# Altium integrated library IRLML2502.IntLib: 1 symbol
Pins are listed as number, name and electrical type; pins without a type are passive.

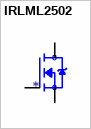
[diagram p0: symbol IRLML2502]

## IRLML2502
designator ?
N-Channel 20V 4.2A _Ta_ 1.25W _Ta_ Surface Mount Micro3â„¢/SOT-23; MF: Infineon Technologies; MP: IRLML2502; Value: *; Package: SOT-23-3 International Rectifier; Digi-Key_Purchase_URL: https://www.digikey.cl/product-detail/en/infineon-technologies/IRLML2502TRPBF/IRLML2502TRPBFCT-ND/812502?utm_source=snapeda&utm_medium=aggregator&utm_campaign=symbol; SnapEDA_Link: https://www.snapeda.com/parts/IRLML2502/Infineon%20Technologies/view-part/453707/?ref=snap; Digi-Key_Part_Number: IRLML2502TRPBFCT-ND
footprint SOT23
pins: 1 G, 2 S, 3 D